# EAGLE library part RELAY (library DSDEagleLibrary)
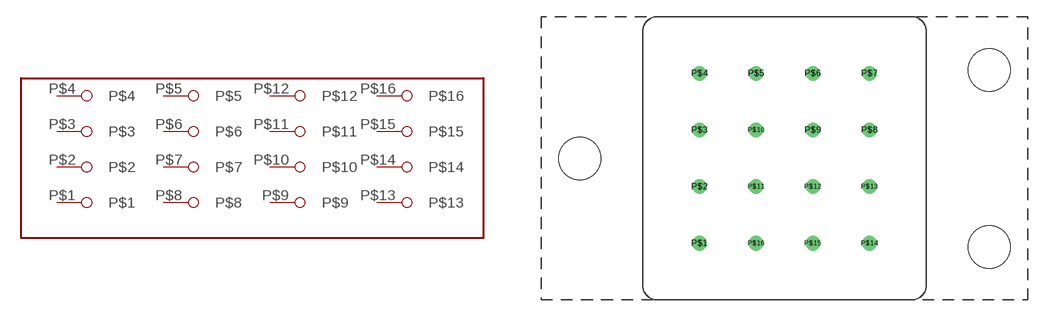
[diagram p41: symbol with the pads of RELAY; footprint RELAY]

Designator prefix RELAY

## RELAY  [RELAY]
P$1  P$1
P$2  P$2
P$3  P$3
P$4  P$4
P$5  P$5
P$6  P$6
P$7  P$7
P$8  P$8
P$9  P$9
P$10  P$10
P$11  P$11
P$12  P$12
P$13  P$13
P$14  P$14
P$15  P$15
P$16  P$16

## Footprint RELAY (pad centres in mm)
drill 0.8: P$1 5.08,5.08; P$2 5.08,10.16; P$3 5.08,15.24; P$4 5.08,20.32; P$5 10.16,20.32; P$6 15.24,20.32; P$7 20.32,20.32; P$8 20.32,15.24; P$9 15.24,15.24; P$10 10.16,15.24; P$11 10.16,10.16; P$12 15.24,10.16; P$13 20.32,10.16; P$14 20.32,5.08; P$15 15.24,5.08; P$16 10.16,5.08
hole 3.81 at -5.664,12.7
hole 3.81 at 31.064,20.637
hole 3.81 at 31.064,4.763